# Altium schematic symbol library schematic.SchLib: 27 symbols
Pins are listed as number, name and electrical type; pins without a type are passive.

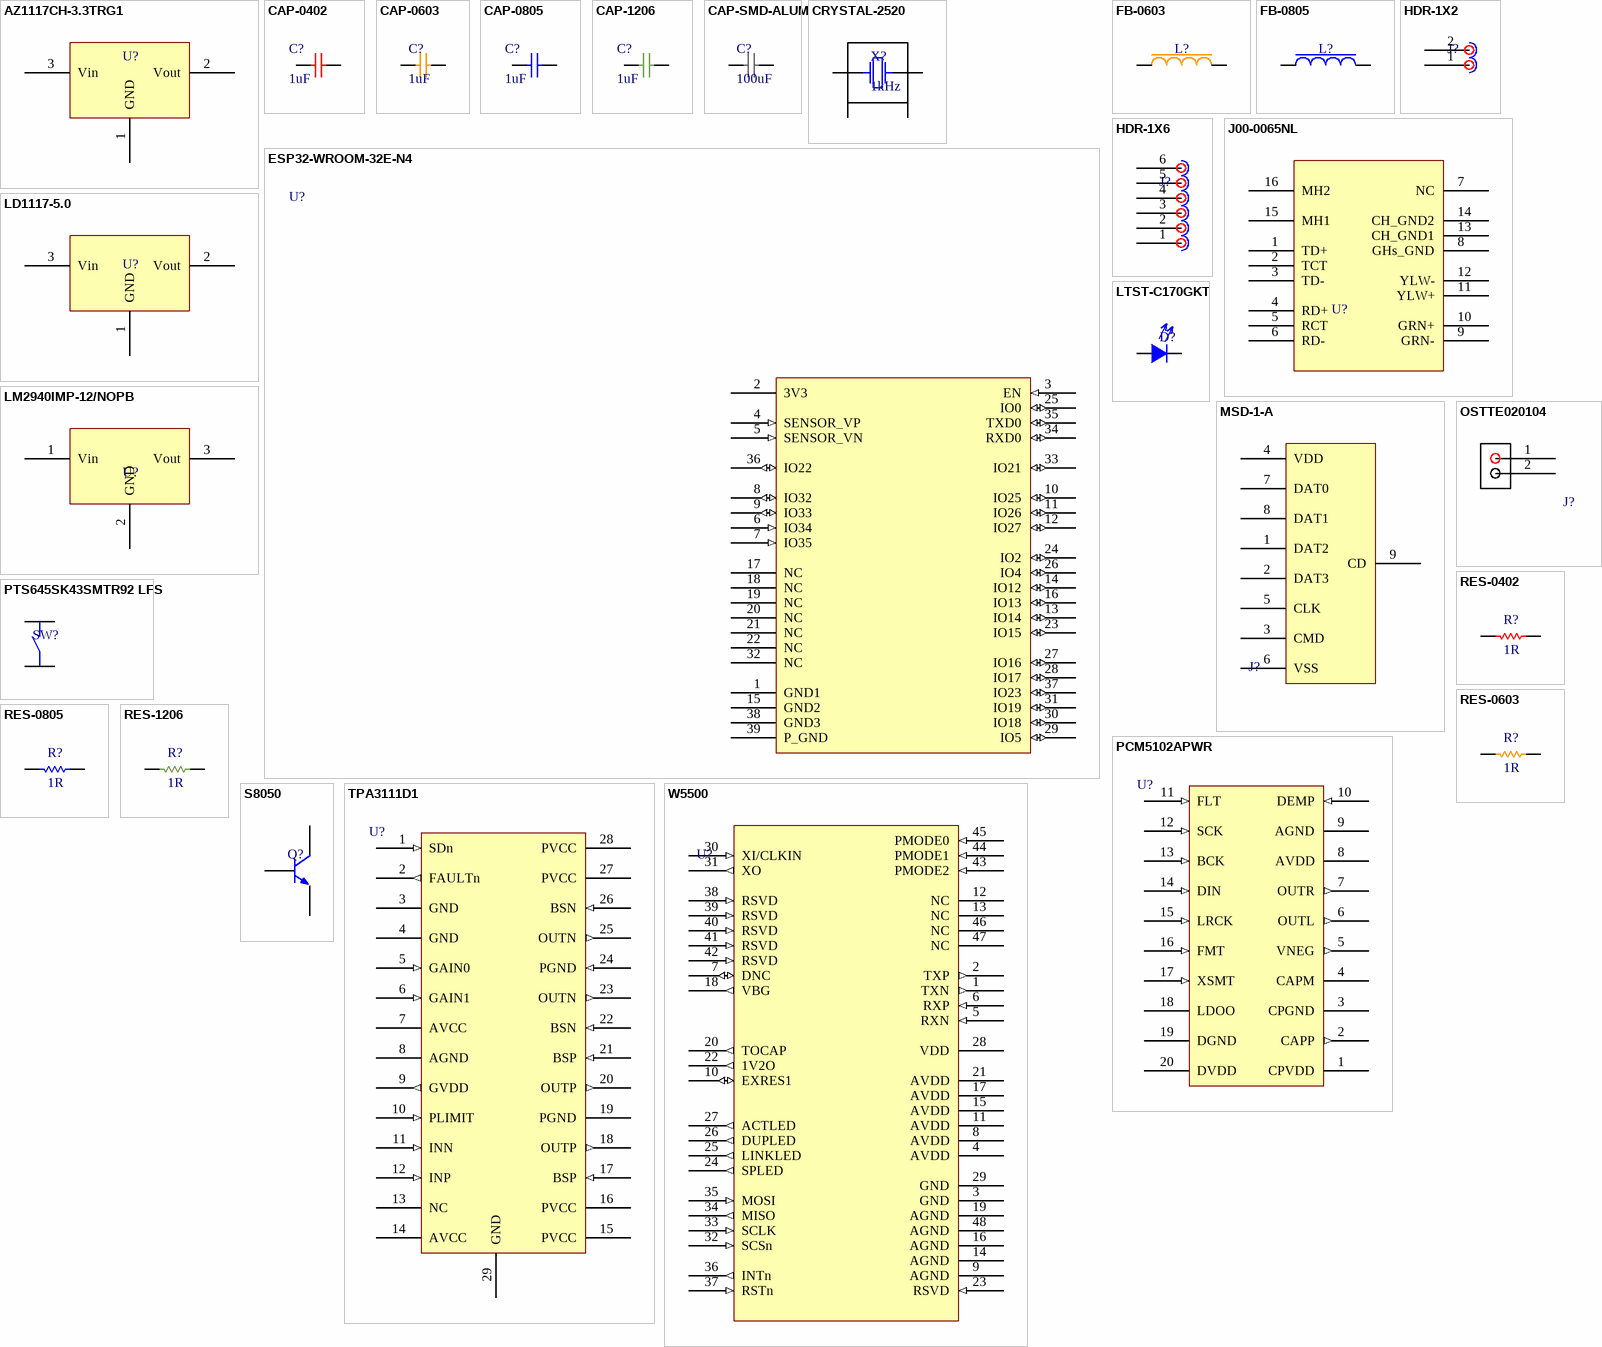
[diagram p0: symbols AZ1117CH-3.3TRG1 to W5500]

## AZ1117CH-3.3TRG1
designator U?
IC REG LINEAR 3.3V 1A SOT-223-3
footprint SOT-223
pins: 1 GND, 2 Vout, 3 Vin

## CAP-0402
designator C?, comment 1uF
footprint CAP-0402
pins: 1, 2

## CAP-0603
designator C?, comment 1uF
footprint CAP-0603
pins: 1, 2

## CAP-0805
designator C?, comment 1uF
footprint CAP-0805
pins: 1, 2

## CAP-1206
designator C?, comment 1uF
footprint CAP-1206
pins: 1, 2

## CAP-SMD-ALUM
designator C?, comment 100uF
CAP ALUM 100UF 20% 50V SMD(UUQ1H101MCL1GS)
footprint CAP-SMD-10x10
pins: 1, 2

## CRYSTAL-2520
designator X?, comment 1kHz
footprint CRYSTAL-2520
pins: 1, 2, 3, 4

## ESP32-WROOM-32E-N4
designator U?
RF TXRX MOD BT WIFI TH SMD
footprint ESP32-WROOM-32E-N4
pins: 1 GND1 (power), 2 3V3 (power), 3 EN (in), 4 SENSOR_VP (in), 5 SENSOR_VN (in), 6 IO34 (in), 7 IO35 (in), 8 IO32 (io), 9 IO33 (io), 10 IO25 (io), 11 IO26 (io), 12 IO27 (io), 13 IO14 (io), 14 IO12 (io), 15 GND2 (power), 16 IO13 (io), 17 NC, 18 NC, 19 NC, 20 NC, 21 NC, 22 NC, 23 IO15 (io), 24 IO2 (io), 25 IO0 (io), 26 IO4 (io), 27 IO16 (io), 28 IO17 (io), 29 IO5 (io), 30 IO18 (io), 31 IO19 (io), 32 NC, 33 IO21 (io), 34 RXD0 (io), 35 TXD0 (io), 36 IO22 (io), 37 IO23 (io), 38 GND3 (power), 39 P_GND (power)

## FB-0603
designator L?
footprint FB-0603
pins: 1, 2

## FB-0805
designator L?
footprint FB-0805
pins: 1, 2

## HDR-1X2
designator J?
footprint HDR-1X2
pins: 1, 2

## HDR-1X6
designator J?
footprint HDR-1X6
pins: 1, 2, 3, 4, 5, 6

## J00-0065NL
designator U?
CONN JACK 1PORT PCB
footprint J00-0065NL
pins: 1 TD+, 2 TCT, 3 TD-, 4 RD+, 5 RCT, 6 RD-, 7 NC, 8 GHs_GND, 9 GRN-, 10 GRN+, 11 YLW+, 12 YLW-, 13 CH_GND1, 14 CH_GND2, 15 MH1, 16 MH2

## LD1117-5.0
designator U?
IC REG LINEAR 5V 1A SOT-223-3L
footprint SOT-223
pins: 1 GND, 2 Vout, 3 Vin

## LM2940IMP-12/NOPB
designator U?
IC REG LINEAR 12V 1A SOT-223-4
footprint SOT-223
pins: 1 Vin, 2 GND, 3 Vout

## LTST-C170GKT
designator D?
LED GREEN CLEAR SMD
footprint LED-0805
pins: 1, 2

## MSD-1-A
designator J?
CONN MICROSD CARD R/A SMD
footprint MSD-1-A
pins: 1 DAT2, 2 DAT3, 3 CMD, 4 VDD, 5 CLK, 6 VSS, 7 DAT0 (power), 8 DAT1, 9 CD

## OSTTE020104
designator J?
TERM BLK 2POS SIDE ENT 3.5MM PCB
footprint TERMBLK-P3.5-SIDEENT
pins: 1 2 (power), 2

## PCM5102APWR
designator U?
IC DAS/ADC/DAC SPECIAL 20-TSSOP
footprint 20-TSSOP
pins: 1 CPVDD, 2 CAPP (out), 3 CPGND, 4 CAPM, 5 VNEG (out), 6 OUTL (out), 7 OUTR (out), 8 AVDD, 9 AGND, 10 DEMP (in), 11 FLT (in), 12 SCK (in), 13 BCK (in), 14 DIN (in), 15 LRCK (in), 16 FMT (in), 17 XSMT (in), 18 LDOO, 19 DGND, 20 DVDD

## PTS645SK43SMTR92 LFS
designator SW?
G TYPE SMT SWITCH TACTILE SPST-NO 0.05A 12V
footprint SW-SMD-6x6
pins: 1, 2, 3, 4 4 

## RES-0402
designator R?, comment 1R
footprint RES-0402
pins: 1, 2

## RES-0603
designator R?, comment 1R
footprint RES-0603
pins: 1, 2

## RES-0805
designator R?, comment 1R
footprint RES-0805
pins: 1, 2

## RES-1206
designator R?, comment 1R
footprint RES-1206
pins: 1, 2

## S8050
designator Q?
TRANS NPN 25V 0.5A SOT-23
footprint SOT-23
pins: 1, 2, 3

## TPA3111D1
designator U?
IC AMP CLASS D MONO 10W 28HTSSOP
footprint 28HTSSOP
pins: 1 SDn (in), 2 FAULTn (out), 3 GND, 4 GND, 5 GAIN0 (in), 6 GAIN1 (in), 7 AVCC (power), 8 AGND, 9 GVDD (out), 10 PLIMIT (in), 11 INN (in), 12 INP (in), 13 NC, 14 AVCC (power), 15 PVCC (power), 16 PVCC (power), 17 BSP (in), 18 OUTP (out), 19 PGND, 20 OUTP (out), 21 BSP (in), 22 BSN (in), 23 OUTN (out), 24 PGND (in), 25 OUTN (out), 26 BSN (in), 27 PVCC (power), 28 PVCC (power), 29 GND

## W5500
designator U?
IC CTLR 3-1 ETH TCP/IP 48LQFP
footprint 48LQFP
pins: 1 TXN (out), 2 TXP (out), 3 GND (power), 4 AVDD (power), 5 RXN (in), 6 RXP (in), 7 DNC (io), 8 AVDD (power), 9 AGND (power), 10 EXRES1 (io), 11 AVDD (power), 12 NC, 13 NC, 14 AGND (power), 15 AVDD (power), 16 AGND (power), 17 AVDD (power), 18 VBG (out), 19 AGND (power), 20 TOCAP (out), 21 AVDD (power), 22 1V2O (out), 23 RSVD (in), 24 SPLED (out), 25 LINKLED (out), 26 DUPLED (out), 27 ACTLED (out), 28 VDD (power), 29 GND (power), 30 XI/CLKIN (in), 31 XO (out), 32 SCSn (in), 33 SCLK (in), 34 MISO (out), 35 MOSI (in), 36 INTn (out), 37 RSTn (in), 38 RSVD (in), 39 RSVD (in), 40 RSVD (in), 41 RSVD (in), 42 RSVD (in), 43 PMODE2 (in), 44 PMODE1 (in), 45 PMODE0 (in), 46 NC, 47 NC, 48 AGND (power)